# Altium footprint library IC.PcbLib: 3 footprints
Each footprint in its own frame and in the unit in brackets; x right, y up, seen from the top. Pads: shape width x height; smd on the part's side, far side on the other; paste and mask are expansions set on the pad; w line width, h text height; cw(c..) or ccw(c..) is an arc to the next point about the centre after c.
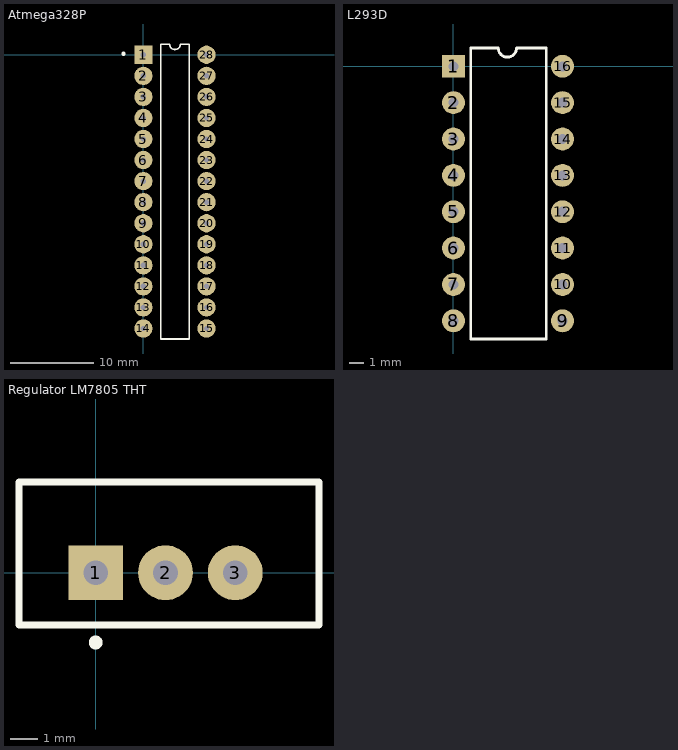
[diagram p0: the footprints below, top view; thin cyan lines are the x and y axes]

## Atmega328P [mm]
pads (28):
  rect 2.2x2.2 hole 0.64: 1(0,0)
  round 2.2 hole 0.64: 2(0,-2.54) 3(0,-5.08) 4(0,-7.62) 5(0,-10.16) 6(0,-12.7) 7(0,-15.24) 8(0,-17.78) 9(0,-20.32) 10(0,-22.86) 11(0,-25.4) 12(0,-27.94) 13(0,-30.48) 14(0,-33.02) 15(7.62,-33.02) 16(7.62,-30.48) 17(7.62,-27.94) 18(7.62,-25.4) 19(7.62,-22.86) 20(7.62,-20.32) 21(7.62,-17.78) 22(7.62,-15.24) 23(7.62,-12.7) 24(7.62,-10.16) 25(7.62,-7.62) 26(7.62,-5.08) 27(7.62,-2.54) 28(7.62,0)
Top Overlay:
  circle w0.254: c-2.413,0.127 r0.127
  lines w0.2: 2.105,-34.29 2.105,1.27 3.175,1.27 ccw(c3.81,1.27) 4.445,1.27 5.515,1.27 5.515,-34.29 2.105,-34.29
3D body "ATMEGA328P-PU--3DModel-STEP-56544.STEP": height 4.57, standoff -3.43, extent -0.14,-33.782 7.76,0.889

## L293D [mm]
pads (16):
  rect 1.6x1.6 hole 0.7: 1(0,0)
  round 1.6 hole 0.7: 2(0,-2.54) 3(0,-5.08) 4(0,-7.62) 5(0,-10.16) 6(0,-12.7) 7(0,-15.24) 8(0,-17.78) 9(7.62,-17.78) 10(7.62,-15.24) 11(7.62,-12.7) 12(7.62,-10.16) 13(7.62,-7.62) 14(7.62,-5.08) 15(7.62,-2.54) 16(7.62,0)
Top Overlay:
  lines w0.2: 1.204,-19.05 6.477,-19.05 6.477,1.27 4.4,1.27 cw(c3.765,1.27) 3.13,1.27 1.204,1.27 1.204,-3.81 1.204,-13.97 1.204,-19.05

## Regulator LM7805 THT [mm]
pads (3):
  rect 2x2 hole 0.9: 1(0,0)
  round 2 hole 0.9: 2(2.54,0) 3(5.08,0)
Top Overlay:
  circle w0.254: c0,-2.54 r0.127
  lines w0.254: -2.794,-1.905 8.128,-1.905 8.128,3.302 -2.794,3.302 -2.794,-1.905
3D body "7805CV.STEP": height 19.22, standoff -9.68, extent -2.48,-1.488 7.72,3.013